# Altium footprint library SMA.PcbLib: 1 footprints
Each footprint in its own frame and in the unit in brackets; x right, y up, seen from the top. Pads: shape width x height; smd on the part's side, far side on the other; paste and mask are expansions set on the pad; w line width, h text height; cw(c..) or ccw(c..) is an arc to the next point about the centre after c.
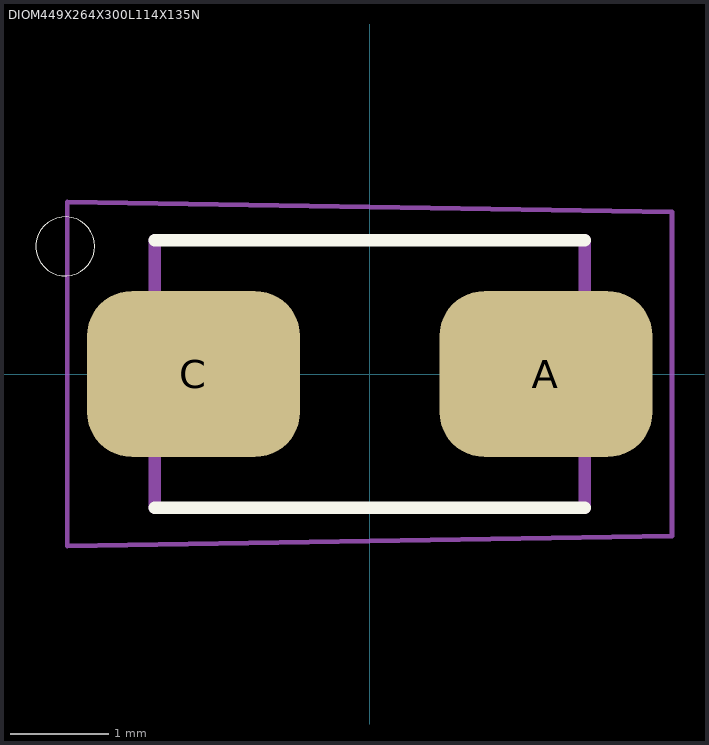
[diagram p0: the footprint, top view; thin cyan lines are the x and y axes]

## DIOM449X264X300L114X135N [mm]
pads (2):
  rrect54% 2.17x1.69 smd: A(1.795,0) C(-1.795,0)
Top Overlay:
  circle w0: c-3.1,1.3 r0.3
  lines w0.127: -2.187,-1.362 2.187,-1.362 ; -2.187,1.362 2.187,1.362
Mechanical 13:
  lines w0.127: -2.187,-1.362 -2.187,1.362 ; 2.187,-1.362 2.187,1.362
Mechanical 15:
  lines w0.05: -3.08,-1.75 -3.08,1.75 3.08,1.65 3.08,-1.65 -3.08,-1.75